# EAGLE library part AD5684RB (library HyTechDevices)
4-Channel 5V 12-Bit DAC Datasheet <https://www.mouser.com/datasheet/2/609/AD5686R_5685R_5684R-1501714.pdf>
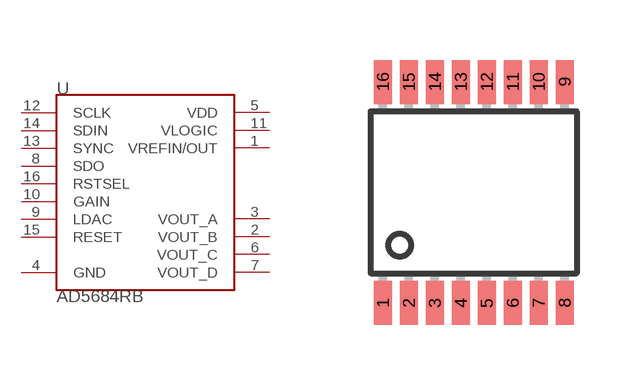
[diagram p44: symbol with the pads of TSSOP-16; footprint TSSOP-16]

Designator prefix U

## AD5684RB (CHANNELS: 4; DKPN: AD5684RBRUZ-ND; MOPN: 584-AD5684RBRUZ; RESOLUTION: 12-Bit)  [TSSOP-16]
1  VREFIN/OUT  pas
2  VOUT_B  pas
3  VOUT_A  pas
4  GND  pas
5  VDD  pas
6  VOUT_C  pas
7  VOUT_D  pas
8  SDO  pas
9  LDAC  pas
10  GAIN  pas
11  VLOGIC  pas
12  SCLK  pas
13  SYNC  pas
14  SDIN  pas
15  RESET  pas
16  RSTSEL  pas

## Footprint TSSOP-16 (pad centres in mm)
16-Lead Thin Shrink Small Outline Package TSSOP
smd 0.45 x 1.1: 1 -2.275,-2.618; 2 -1.625,-2.618; 3 -0.975,-2.618; 4 -0.325,-2.618; 5 0.325,-2.618; 6 0.975,-2.618; 7 1.625,-2.618; 8 2.275,-2.618; 9 2.275,2.918; 10 1.625,2.918; 11 0.975,2.918; 12 0.325,2.918; 13 -0.325,2.918; 14 -0.975,2.918; 15 -1.625,2.918; 16 -2.275,2.918